# Altium footprint library Generic-Footprint-Library.PcbLib: 47 footprints (part 1 of 3)
Each footprint in its own frame and in the unit in brackets; x right, y up, seen from the top. Pads: shape width x height; smd on the part's side, far side on the other; paste and mask are expansions set on the pad; w line width, h text height; cw(c..) or ccw(c..) is an arc to the next point about the centre after c.
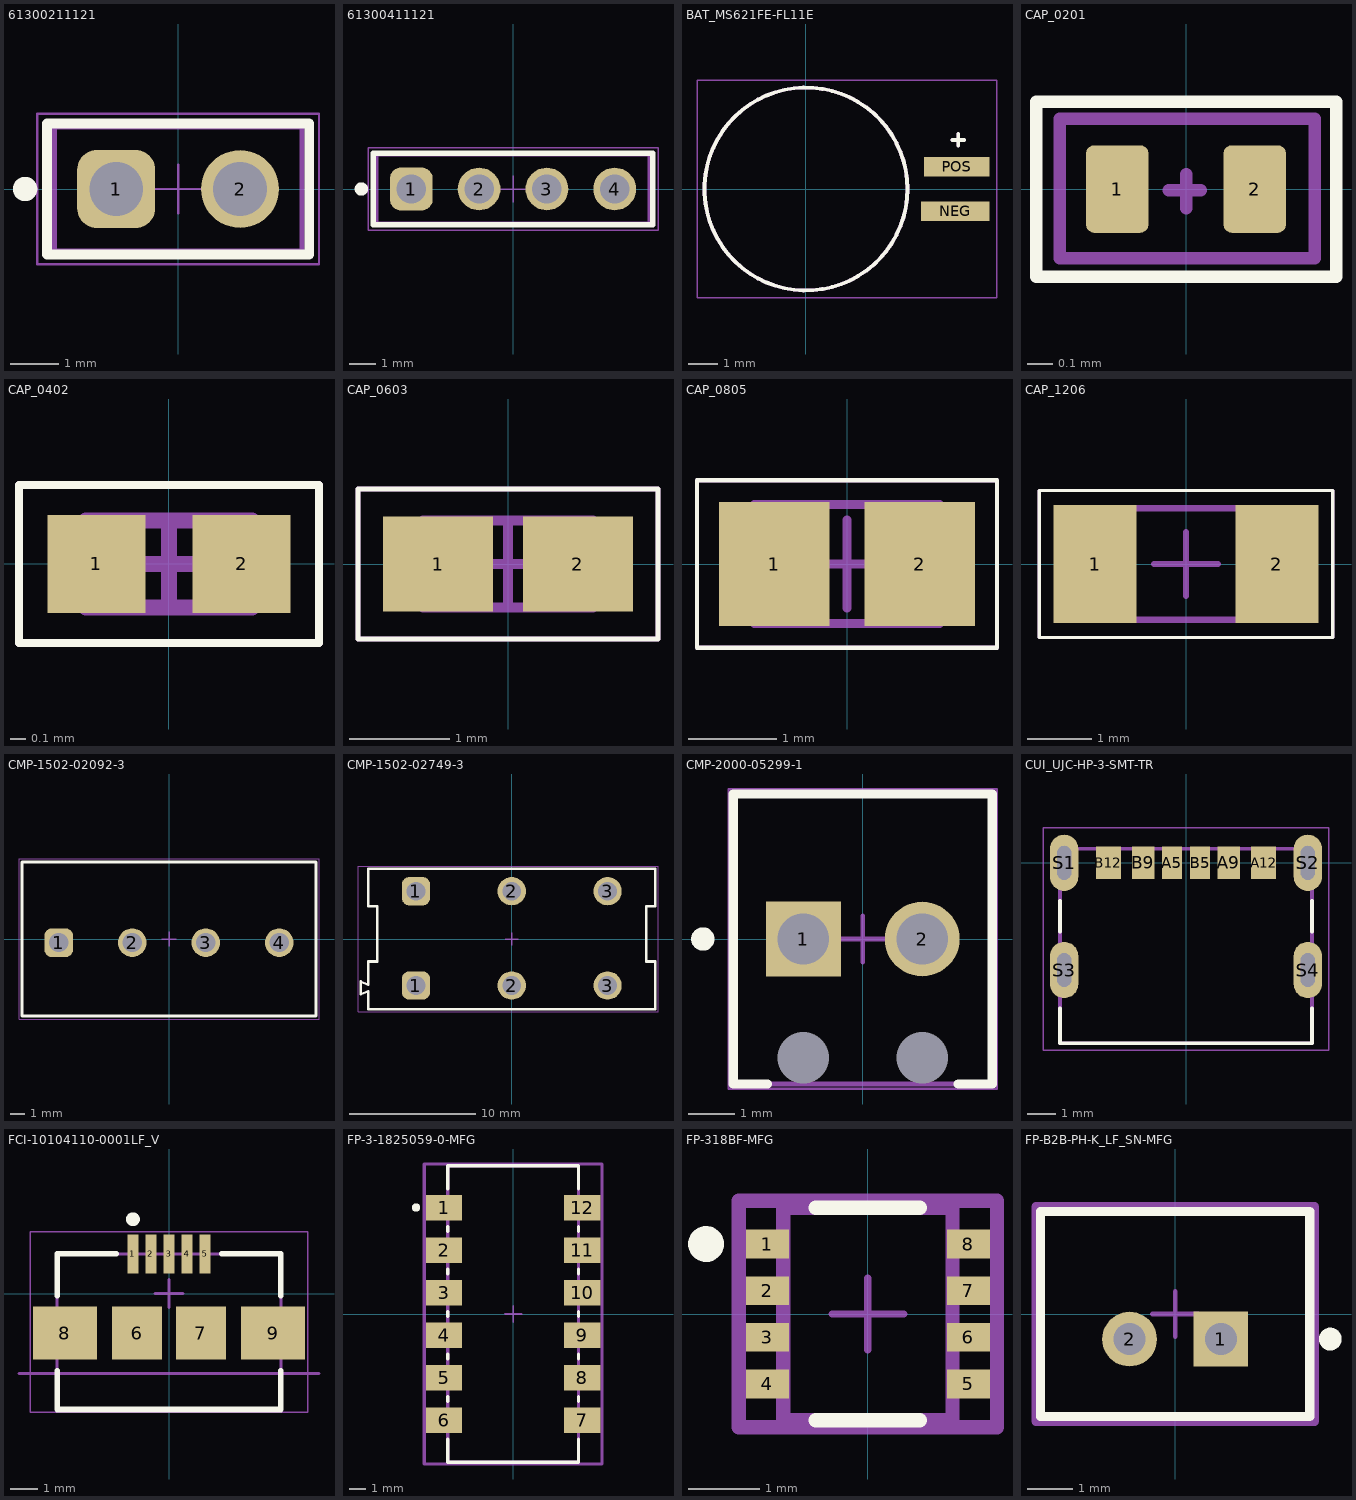
[diagram p0: the footprints below, top view; thin cyan lines are the x and y axes]

## 61300211121 [mm] "Pin Header, pitch 2.54 mm, THT, Vertical, single row, 2p"
height 8.54
pads (2):
  rrect50% 1.6x1.6 hole 1.1: 1(-1.27,0)
  round 1.6 hole 1.1: 2(1.27,0)
Top Overlay:
  circle w0.25: c-3.14,0 r0.125
  lines w0.2: -2.69,-1.345 -2.69,1.345 2.69,1.345 2.69,-1.345 -2.69,-1.345
Top Courtyard:
  lines w0.05: -2.89,-1.545 2.89,-1.545 2.89,1.545 -2.89,1.545 -2.89,-1.545
Top Component Center:
  lines w0.05: -0.5,0 0.5,0 ; 0,-0.5 0,0.5
Top Component Outline:
  lines w0.1: -2.54,-1.27 2.54,-1.27 2.54,1.27 -2.54,1.27 -2.54,-1.27
Top Designator:
  text ".Designator" at -7.498,-0.5 h1.5
3D body "61300211121.stp": height 8.57, standoff -2.97, extent -2.54,-1.27 2.54,1.27

## 61300411121 [mm] "Pin Header, pitch 2.54 mm, THT, Vertical, single row, 4p"
height 8.54
pads (4):
  rrect50% 1.6x1.6 hole 1.1: 1(-3.81,0)
  round 1.6 hole 1.1: 2(-1.27,0) 3(1.27,0) 4(3.81,0)
Top Overlay:
  circle w0.25: c-5.68,0 r0.125
  lines w0.2: -5.23,-1.345 5.23,-1.345 5.23,1.345 -5.23,1.345 -5.23,-1.345
Top Courtyard:
  lines w0.05: -5.43,-1.545 -5.43,1.545 5.43,1.545 5.43,-1.545 -5.43,-1.545
Top Component Center:
  lines w0.05: -0.5,0 0.5,0 ; 0,-0.5 0,0.5
Top Component Outline:
  lines w0.1: -5.08,-1.27 -5.08,1.27 5.08,1.27 5.08,-1.27 -5.08,-1.27
Top Designator:
  text ".Designator" at -7.498,-0.5 h1.5
3D body "61300411121.stp": height 8.57, standoff -2.97, extent -5.08,-1.27 5.08,1.27

## BAT_MS621FE-FL11E [mm]
height 2.8
pads (2):
  rect 2.3x0.65 smd: NEG(5,-0.75)
  rect 2.2x0.65 smd: POS(5.05,0.75)
Top Overlay:
  circle w0.127: c0,0 r3.4
  lines w0.127: 4.9,1.646 5.3,1.646 ; 5.1,1.446 5.1,1.846
Mechanical 13:
  circle w0.127: c0,0 r3.4
  lines w0.127: 4.9,1.646 5.3,1.646 ; 5.1,1.446 5.1,1.846
Mechanical 15:
  lines w0.05: -3.65,-3.65 6.4,-3.65 6.4,3.65 -3.65,3.65 -3.65,-3.65
3D body "step_temp.STEP": height 2.8, standoff 0, extent -3.4,-3.4 5.9,3.4

## CAP_0201 [mm]
pads (2):
  rrect25% 0.25x0.35 smd mask+0.05: 1(-0.275,0) 2(0.275,0)
Top Overlay:
  lines w0.05: -0.6,-0.35 0.6,-0.35 0.6,0.35 -0.6,0.35 -0.6,-0.35
Top Courtyard:
  lines w0.05: -0.505,-0.276 -0.505,0.281 0.515,0.281 0.515,-0.276 -0.505,-0.276
Top Component Center:
  lines w0.05: -0.068,-0.004 0.059,-0.004 ; 0,-0.078 0,0.058
3D body "C0201.stp": height 0.34, standoff 0.01, extent -0.315,-0.166 0.315,0.164

## CAP_0402 [mm]
height 0.55
pads (2):
  rect 0.62x0.62 smd mask+0.05: 1(-0.46,0) 2(0.46,0)
Top Overlay:
  lines w0.05: -0.95,-0.5 -0.95,0.5 0.95,0.5 0.95,-0.5 -0.95,-0.5
Top Assembly:
  lines w0.1: -0.525,-0.275 -0.525,0.275 0.525,0.275 0.525,-0.275 -0.525,-0.275
Top Courtyard:
  lines w0.05: -0.95,-0.5 -0.95,0.5 0.95,0.5 0.95,-0.5 -0.95,-0.5
Top Component Center:
  lines w0.1: -0.275,0 0.275,0 ; 0,-0.275 0,0.275
3D body "CAP_0402_new.step": height 0.55, standoff 0, extent -0.525,-0.275 0.525,0.275

## CAP_0603 [mm]
height 0.87
pads (2):
  rect 1.1x0.95 smd mask+0.05: 1(-0.7,0) 2(0.7,0)
Top Overlay:
  lines w0.05: -1.5,-0.75 -1.5,0.75 1.5,0.75 1.5,-0.75 -1.5,-0.75
Top Assembly:
  lines w0.1: -0.85,-0.435 -0.85,0.435 0.85,0.435 0.85,-0.435 -0.85,-0.435
Top Courtyard:
  lines w0.05: -1.5,-0.75 -1.5,0.75 1.5,0.75 1.5,-0.75 -1.5,-0.75
Top Component Center:
  lines w0.1: -0.435,0 0.435,0 ; 0,-0.435 0,0.435
3D body "CAP_0603.step": height 0.87, standoff 0, extent -0.85,-0.435 0.85,0.435

## CAP_0805 [mm]
height 1.35
pads (2):
  rect 1.25x1.4 smd: 1(-0.825,0) 2(0.825,0)
Top Overlay:
  lines w0.05: -1.331,-0.95 -1.7,-0.95 ; -1.7,-0.95 -1.7,0.95 1.7,0.95 1.7,-0.95 -1.7,-0.95
Top Assembly:
  lines w0.1: -1.05,-0.675 -1.05,0.675 1.05,0.675 1.05,-0.675 -1.05,-0.675
Top Courtyard:
  lines w0.05: -1.7,-0.95 -1.7,0.95 1.7,0.95 1.7,-0.95 -1.7,-0.95
Top Component Center:
  lines w0.1: -0.5,0 0.5,0 ; 0,-0.5 0,0.5
3D body "CAP_0805.step": height 1.35, standoff 0, extent -1.05,-0.675 1.05,0.675

## CAP_1206 [mm]
height 1.35
pads (2):
  rect 1.3x1.85 smd mask+0.05: 1(-1.425,0) 2(1.425,0)
Top Overlay:
  lines w0.05: -2.3,-1.15 2.3,-1.15 2.3,1.15 -2.3,1.15 -2.3,-1.15
Top Assembly:
  lines w0.1: -1.675,-0.875 1.675,-0.875 1.675,0.875 -1.675,0.875 -1.675,-0.875
Top Courtyard:
  lines w0.05: -2.3,-1.15 2.3,-1.15 2.3,1.15 -2.3,1.15 -2.3,-1.15
Top Component Center:
  lines w0.1: -0.5,0 0.5,0 ; 0,-0.5 0,0.5
3D body "CAP_1206.step": height 1.35, standoff 0, extent -1.675,-0.875 1.675,0.875

## CMP-1502-02092-3 [mm] "5.00mm - PCB Header ( Horizontal / Vertical ), 04p"
height 10.9
pads (4):
  rrect50% 1.95x1.95 hole 1.3: 1(-7.5,-0.25)
  round 1.95 hole 1.3: 2(-2.5,-0.25) 3(2.5,-0.25) 4(7.5,-0.25)
Top Overlay:
  lines w0.2: -10,-5.25 -10,5.25 10,5.25 10,-5.25 -10,-5.25
Top Assembly:
  lines w0.1: -10,-5.25 10,-5.25 10,5.25 -10,5.25 -10,-5.25
Top 3D Body:
  lines w0.1: -10,-5.25 -10,5.25 10,5.25 10,-5.25 -10,-5.25
Top Courtyard:
  lines w0.05: -10.2,-5.45 10.2,-5.45 10.2,5.45 -10.2,5.45 -10.2,-5.45
Top Component Center:
  lines w0.1: -0.5,0 0.5,0 ; 0,-0.5 0,0.5
Top Designator:
  text ".Designator" at -3.647,-0.357 h1
3D body "691386700004.stp": height 11, standoff -4, extent -10,-5.25 10,5.25

## CMP-1502-02749-3 [mm] "Serie 2544 - 7.62 mm _ 3 pins"
height 18
pads (6):
  rrect50% 2.25x2.25 hole 1.5: 1(-7.62,-3.7) 1(-7.62,3.8)
  round 2.25 hole 1.5: 2(0,-3.7) 2(0,3.8) 3(7.62,-3.7) 3(7.62,3.8)
Top Overlay:
  lines w0.2: -11.43,5.6 11.43,5.6 11.43,2.59 10.68,2.59 10.68,-1.79 11.43,-1.79 11.43,-5.6 -11.43,-5.6 -11.43,-4.15 -12.03,-4.41 -12.03,-3.38 -11.43,-3.64 -11.43,-1.79 -10.68,-1.79 -10.68,2.59 -11.43,2.59 -11.43,5.6
Top Assembly:
  lines w0.1: -11.43,5.6 11.43,5.6 11.43,2.59 10.68,2.59 10.68,-1.79 11.43,-1.79 11.43,-5.6 -11.43,-5.6 -11.43,-4.15 -12.03,-4.41 -12.03,-3.38 -11.43,-3.64 -11.43,-1.79 -10.68,-1.79 -10.68,2.59 -11.43,2.59 -11.43,5.6
Top 3D Body:
  lines w0.1: -11.43,5.6 11.43,5.6 11.43,2.59 10.68,2.59 10.68,-1.79 11.43,-1.79 11.43,-5.6 -11.43,-5.6 -11.43,-4.15 -12.03,-4.41 -12.03,-3.38 -11.43,-3.64 -11.43,-1.79 -10.68,-1.79 -10.68,2.59 -11.43,2.59 -11.43,5.6
Top Courtyard:
  lines w0.05: -12.23,-5.8 11.63,-5.8 11.63,5.8 -12.23,5.8 -12.23,-5.8
Top Component Center:
  lines w0.1: -0.5,0 0.5,0 ; 0,-0.5 0,0.5
Top Designator:
  text ".Designator" at -3.647,-0.357 h1
3D body "691254410003.stp": height 18.05, standoff -3.45, extent -12.03,-5.6 11.43,5.6

## CMP-2000-05299-1 [mm] "Connector, 2-Leads, Body 6.2x5.4mm, Pitch 2.54mm"
height 8.5
pads (4):
  rect 1.6x1.6 hole 1.1: 1(-1.27,0)
  round 1.6 hole 1.1: 2(1.27,0)
  round 0 hole 1.1 unplated: MH1(-1.27,-2.54) MH2(1.27,-2.54)
Top Overlay:
  circle w0.25: c-3.42,0 r0.125
  lines w0.2: -2.038,-3.1 -2.77,-3.1 -2.77,3.1 2.77,3.1 2.77,-3.1 2.038,-3.1
Mechanical 13:
  lines w0.1: -2.77,-3.1 -2.77,3.1 2.77,3.1 2.77,-3.1 -2.77,-3.1
Mechanical 15:
  lines w0.05: -2.87,-3.2 2.87,-3.2 2.87,3.2 -2.87,3.2 -2.87,-3.2
  lines w0.1: -0.5,0 0.5,0 ; 0,-0.5 0,0.5
3D body "1725656.stp": height 9, standoff -3, extent -2.77,-3.1 2.77,3.1

## CUI_UJC-HP-3-SMT-TR [mm]
height 3.16
pads (10):
  rect 0.7x1.15 smd: A5(-0.5,0.005) B5(0.5,0.005)
  rect 0.8x1.15 smd: A9(1.52,0.005) B9(-1.52,0.005)
  rect 0.9x1.15 smd: A12(2.75,0.005) B12(-2.75,0.005)
  oval 1x2 hole 0.5 slot 1.2 at 90 deg: S1(-4.32,0) S2(4.32,0) S3(-4.32,-3.8) S4(4.32,-3.8)
Top Overlay:
  lines w0.127: -4.47,-5.15 -4.47,-6.4 4.47,-6.4 4.47,-5.15 ; -4.47,-2.45 -4.47,-1.35 ; 4.47,-2.45 4.47,-1.35
Mechanical 13:
  lines w0.127: -4.47,-6.4 -4.47,0.5 4.47,0.5 4.47,-6.4 -4.47,-6.4
Mechanical 15:
  lines w0.05: -5.07,-6.65 -5.07,1.25 5.07,1.25 5.07,-6.65 -5.07,-6.65
3D body "step_temp.STEP": height 3.3, standoff -0.96, extent -4.47,-6.44 4.47,0.46

## FCI-10104110-0001LF_V [mm] "SMD, 5-Leads, Body 8.06x5.6mm, Pitch 0.65mm"
height 2.95
pads (9):
  rect 0.4x1.4 smd: 1(-1.3,1.425) 2(-0.65,1.425) 3(0,1.425) 4(0.65,1.425) 5(1.3,1.425)
  rect 1.8x1.9 smd: 6(-1.15,-1.425) 7(1.15,-1.425)
  rect 2.3x1.9 smd: 8(-3.75,-1.425) 9(3.75,-1.425)
Top Overlay:
  circle w0.25: c-1.3,2.675 r0.125
  lines w0.2: -4.03,-2.775 -4.03,-4.175 4.03,-4.175 4.03,-2.775 ; -4.03,-0.075 -4.03,1.425 -1.9,1.425 ; 1.9,1.425 4.03,1.425 4.03,-0.075
Top Courtyard:
  lines w0.1: -5.4,-2.875 5.4,-2.875
  text "PCB EDGE" at -8.128,-3.048 h0.3
Mechanical 13:
  lines w0.1: -4.03,-4.175 4.03,-4.175 4.03,1.425 -4.03,1.425 -4.03,-4.175
Mechanical 15:
  lines w0.05: -5,-4.275 5,-4.275 5,2.225 -5,2.225 -5,-4.275
  lines w0.1: -0.5,0 0.5,0 ; 0,-0.5 0,0.5
3D body: height 2.95, standoff 0, extent -4.03,-4.175 4.03,1.425

## FP-3-1825059-0-MFG [mm]
pads (12):
  rect 2.16x1.52 smd paste+0 mask+0: 1(-4.13,6.35) 2(-4.13,3.81) 3(-4.13,1.27) 4(-4.13,-1.27) 5(-4.13,-3.81) 6(-4.13,-6.35) 7(4.13,-6.35) 8(4.13,-3.81) 9(4.13,-1.27) 10(4.13,1.27) 11(4.13,3.81) 12(4.13,6.35)
Top Overlay:
  circle w0.25: c-5.8,6.36 r0.125
  lines w0.2: -3.9,-7.485 -3.9,-8.86 3.9,-8.86 3.9,-7.485 ; -3.9,-5.215 -3.9,-4.945 ; -3.9,-2.675 -3.9,-2.405 ; -3.9,-0.135 -3.9,0.135 ; -3.9,2.405 -3.9,2.675 ; -3.9,4.945 -3.9,5.215 ; -3.9,7.485 -3.9,8.86 3.9,8.86 3.9,7.485 ; 3.9,-5.215 3.9,-4.945 ; 3.9,-2.675 3.9,-2.405 ; 3.9,-0.135 3.9,0.135 ; 3.9,2.405 3.9,2.675 ; 3.9,4.945 3.9,5.215
Top Assembly:
  lines w0.2: -5.31,-8.96 5.31,-8.96 5.31,8.96 -5.31,8.96 -5.31,-8.96
  text ".Designator" at 0,-0.001 h1
Top 3D Body:
  lines w0.2: -3.9,-8.86 3.9,-8.86 3.9,8.86 -3.9,8.86 -3.9,-8.86
Top Courtyard:
  lines w0.2: -5.31,-8.96 5.31,-8.96 5.31,8.96 -5.31,8.96 -5.31,-8.96
Top Component Center:
  lines w0.1: -0.5,0 0.5,0 ; 0,-0.5 0,0.5
3D body "Switch_TE_Connectivity_3-1825059-0_eec.STEP": height 0.25, standoff 0, extent -5.31,-8.96 5.31,8.96

## FP-318BF-MFG [mm]
pads (8):
  rect 0.6x0.4 smd paste+0 mask+0: 1(-1.4,0.975) 2(-1.4,0.325) 3(-1.4,-0.325) 4(-1.4,-0.975) 5(1.4,-0.975) 6(1.4,-0.325) 7(1.4,0.325) 8(1.4,0.975)
Top Overlay:
  circle w0.25: c-2.255,0.975 r0.125
  lines w0.2: -0.725,-1.48 0.725,-1.48 ; -0.725,1.48 0.725,1.48
Top Assembly:
  lines w0.2: -1.8,-1.58 -1.8,1.58 1.8,1.58 1.8,-1.58 -1.8,-1.58
  text ".Designator" at 0,0.188 h1
Top 3D Body:
  lines w0.2: -1.18,-1.48 -1.18,1.48 1.18,1.48 1.18,-1.48 -1.18,-1.48
Top Courtyard:
  lines w0.2: -1.8,-1.58 -1.8,1.58 1.8,1.58 1.8,-1.58 -1.8,-1.58
Top Component Center:
  lines w0.1: -0.5,0 0.5,0 ; 0,-0.5 0,0.5
3D body "Trans_onsemi_ECH8693R-TL-W_eec.STEP": height 0.25, standoff 0, extent -1.8,-1.58 1.8,1.58

## FP-B2B-PH-K_LF_SN-MFG [mm]
pads (2):
  rect 1.2x1.2 hole 0.7 paste-2539.97 mask+0: 1(1,-0.55)
  round 1.2 hole 0.7 paste-2539.97 mask+0: 2(-1,-0.55)
Top Overlay:
  circle w0.25: c3.4,-0.55 r0.125
  lines w0.2: -2.95,-2.25 -2.95,2.25 2.95,2.25 2.95,-2.25 -2.95,-2.25
Top Assembly:
  lines w0.2: -3.05,-2.35 -3.05,2.35 3.05,2.35 3.05,-2.35 -3.05,-2.35
  text ".Designator" at 0,0.188 h1
Top 3D Body:
  lines w0.2: -2.95,-2.25 -2.95,2.25 2.95,2.25 2.95,-2.25 -2.95,-2.25
Top Courtyard:
  lines w0.2: -3.05,-2.35 -3.05,2.35 3.05,2.35 3.05,-2.35 -3.05,-2.35
Top Component Center:
  lines w0.1: -0.5,0 0.5,0 ; 0,-0.5 0,0.5
3D body "Conn_JST_B2B-PH-K_LF_SN_eec.STEP": height 0.25, standoff 0, extent -3.05,-2.35 3.05,2.35